# Altium integrated library TI Data Converters Digital to Analog Converter.IntLib: 1533 symbols (part 91 of 99)
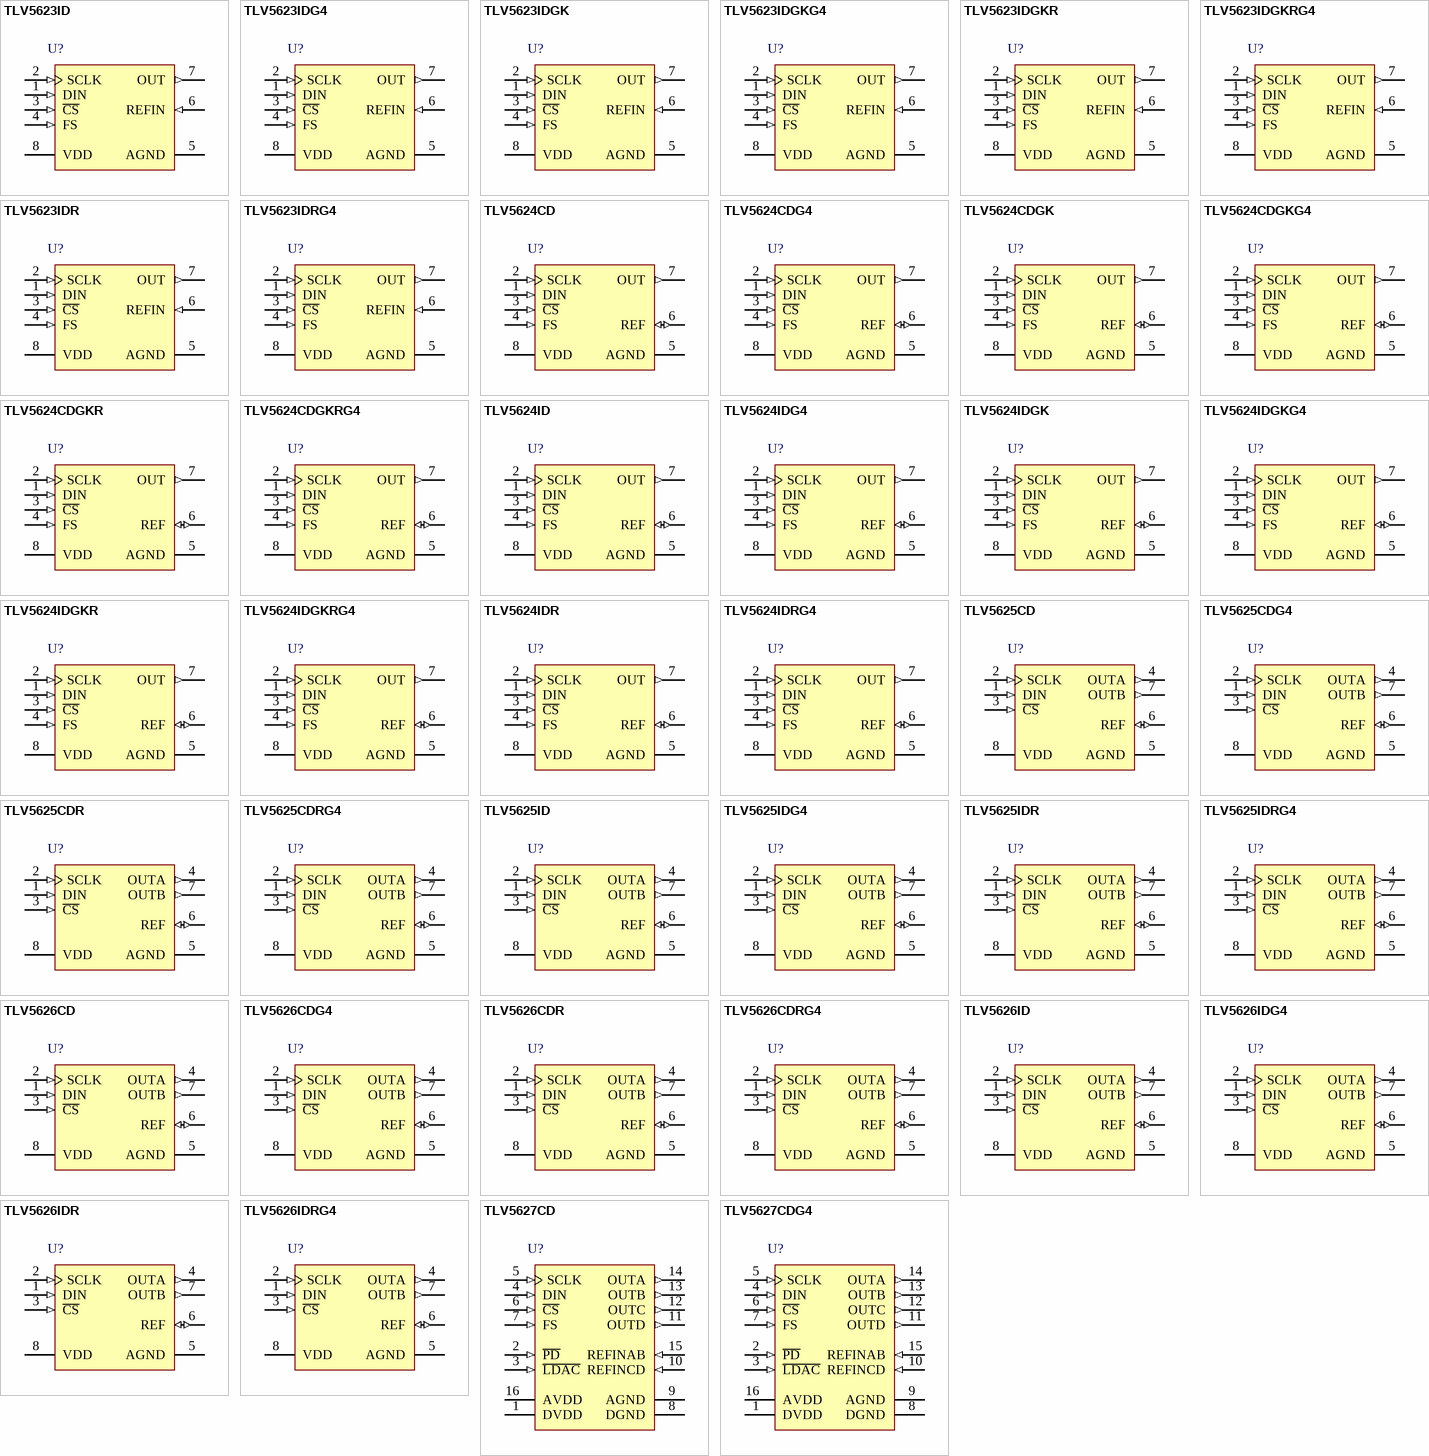
[diagram p163: symbols TLV5623ID to TLV5627CDG4]

## TLV5624CDGK
designator U?
8-Bit, 1 to 3.5 us DAC, Serial Input, Programmable Internal Reference, Settling Time, 0 to 70 degC, 8-pin SOP (DGK8), Green (RoHS & no Sb/Br); Manufacturer: Texas Instruments; PartNumber: TLV5624CDGK; DAC Channels: 1; DNL(Max)(+/-LSB): 0.2; INL(Max)(+/-LSB): 0.5; Interface: Serial SPI; Power Consumption(Typ)(mW): 0.9; Resolution(Bits): 8; SFDR(dB): 62; SNR(dB): 57; SubFamily: Precision DAC (=<10MSPS); DatasheetVersion: SLAS235B; PackageVersion: 4073329/E, 05/2006; PackageReference: DGK8; PackageDescription: 8-Pin Thin Small Outline, Body 3 x 3 mm, Pitch 0.65 mm; Supplier 1: Digi-Key; Supplier Part Number 1: TLV5624CDGK-ND; Supplier 2: Mouser; Supplier Part Number 2: 595-TLV5624CDGK; Eco-Plan: Green (RoHS & no Sb/Br); Settling Time(us): 1; Mounting Technology: Surface Mount; Code_JEDEC: MO-187; ComponentLink1Description: Manufacturer URL; ComponentLink1URL: http://www.ti.com/; ComponentLink2Description: Datasheet; ComponentLink2URL: http://www.ti.com/general/docs/lit/getliterature.tsp?genericPartNumber=TLV5624&fileType=pdf; ComponentLink3Description: Package Specification; ComponentLink3URL: http://www.ti.com/litv/pdf/mpds028d
footprint TI-DGK8_N (SOP, 8-Leads, Body 3x3mm, Pitch 0.65mm, IPC Medium Density)
footprint TI-DGK8_L (SOP, 8-Leads, Body 3x3mm, Pitch 0.65mm, IPC High Density)
footprint TI-DGK8_M (SOP, 8-Leads, Body 3x3mm, Pitch 0.65mm, IPC Low Density)
pins: 1 DIN (in) "Digital serial data input", 2 SCLK (in) "Digital serial clock input", 3 ~{CS} (in) "Chip select. Digital input active low, used to enable/disable inputs", 4 FS (in) "Frame sync input", 5 AGND (power) "Ground", 6 REF (io) "Analog reference voltage input/output", 7 OUT (out) "DAC A analog voltage output", 8 VDD (power) "Positive power supply"

## TLV5624CDGKG4
designator U?
8-Bit, 1 to 3.5 us DAC, Serial Input, Programmable Internal Reference, Settling Time, 0 to 70 degC, 8-pin SOP (DGK8), Green (RoHS & no Sb/Br); Manufacturer: Texas Instruments; PartNumber: TLV5624CDGKG4; DAC Channels: 1; DNL(Max)(+/-LSB): 0.2; INL(Max)(+/-LSB): 0.5; Interface: Serial SPI; Power Consumption(Typ)(mW): 0.9; Resolution(Bits): 8; SFDR(dB): 62; SNR(dB): 57; SubFamily: Precision DAC (=<10MSPS); DatasheetVersion: SLAS235B; PackageVersion: 4073329/E, 05/2006; PackageReference: DGK8; PackageDescription: 8-Pin Thin Small Outline, Body 3 x 3 mm, Pitch 0.65 mm; Supplier 1: Digi-Key; Supplier Part Number 1: TLV5624CDGKG4-ND; Supplier 2: Mouser; Supplier Part Number 2: 595-TLV5624CDGKG4; Eco-Plan: Green (RoHS & no Sb/Br); Settling Time(us): 1; Mounting Technology: Surface Mount; Code_JEDEC: MO-187; ComponentLink1Description: Manufacturer URL; ComponentLink1URL: http://www.ti.com/; ComponentLink2Description: Datasheet; ComponentLink2URL: http://www.ti.com/general/docs/lit/getliterature.tsp?genericPartNumber=TLV5624&fileType=pdf; ComponentLink3Description: Package Specification; ComponentLink3URL: http://www.ti.com/litv/pdf/mpds028d
footprint TI-DGK8_N (SOP, 8-Leads, Body 3x3mm, Pitch 0.65mm, IPC Medium Density)
footprint TI-DGK8_L (SOP, 8-Leads, Body 3x3mm, Pitch 0.65mm, IPC High Density)
footprint TI-DGK8_M (SOP, 8-Leads, Body 3x3mm, Pitch 0.65mm, IPC Low Density)
pins: 1 DIN (in) "Digital serial data input", 2 SCLK (in) "Digital serial clock input", 3 ~{CS} (in) "Chip select. Digital input active low, used to enable/disable inputs", 4 FS (in) "Frame sync input", 5 AGND (power) "Ground", 6 REF (io) "Analog reference voltage input/output", 7 OUT (out) "DAC A analog voltage output", 8 VDD (power) "Positive power supply"

## TLV5624CDGKR
designator U?
8-Bit, 1 to 3.5 us DAC, Serial Input, Programmable Internal Reference, Settling Time, 0 to 70 degC, 8-pin SOP (DGK8), Green (RoHS & no Sb/Br); Manufacturer: Texas Instruments; PartNumber: TLV5624CDGKR; DAC Channels: 1; DNL(Max)(+/-LSB): 0.2; INL(Max)(+/-LSB): 0.5; Interface: Serial SPI; Power Consumption(Typ)(mW): 0.9; Resolution(Bits): 8; SFDR(dB): 62; SNR(dB): 57; SubFamily: Precision DAC (=<10MSPS); DatasheetVersion: SLAS235B; PackageVersion: 4073329/E, 05/2006; PackageReference: DGK8; PackageDescription: 8-Pin Thin Small Outline, Body 3 x 3 mm, Pitch 0.65 mm; Supplier 1: Digi-Key; Supplier Part Number 1: TLV5624CDGKR-ND; Supplier 2: Mouser; Supplier Part Number 2: 595-TLV5624CDGKR; Eco-Plan: Green (RoHS & no Sb/Br); Settling Time(us): 1; Mounting Technology: Surface Mount; Code_JEDEC: MO-187; ComponentLink1Description: Manufacturer URL; ComponentLink1URL: http://www.ti.com/; ComponentLink2Description: Datasheet; ComponentLink2URL: http://www.ti.com/general/docs/lit/getliterature.tsp?genericPartNumber=TLV5624&fileType=pdf; ComponentLink3Description: Package Specification; ComponentLink3URL: http://www.ti.com/litv/pdf/mpds028d
footprint TI-DGK8_N (SOP, 8-Leads, Body 3x3mm, Pitch 0.65mm, IPC Medium Density)
footprint TI-DGK8_L (SOP, 8-Leads, Body 3x3mm, Pitch 0.65mm, IPC High Density)
footprint TI-DGK8_M (SOP, 8-Leads, Body 3x3mm, Pitch 0.65mm, IPC Low Density)
pins: 1 DIN (in) "Digital serial data input", 2 SCLK (in) "Digital serial clock input", 3 ~{CS} (in) "Chip select. Digital input active low, used to enable/disable inputs", 4 FS (in) "Frame sync input", 5 AGND (power) "Ground", 6 REF (io) "Analog reference voltage input/output", 7 OUT (out) "DAC A analog voltage output", 8 VDD (power) "Positive power supply"

## TLV5624CDGKRG4
designator U?
8-Bit, 1 to 3.5 us DAC, Serial Input, Programmable Internal Reference, Settling Time, 0 to 70 degC, 8-pin SOP (DGK8), Green (RoHS & no Sb/Br); Manufacturer: Texas Instruments; PartNumber: TLV5624CDGKRG4; DAC Channels: 1; DNL(Max)(+/-LSB): 0.2; INL(Max)(+/-LSB): 0.5; Interface: Serial SPI; Power Consumption(Typ)(mW): 0.9; Resolution(Bits): 8; SFDR(dB): 62; SNR(dB): 57; SubFamily: Precision DAC (=<10MSPS); DatasheetVersion: SLAS235B; PackageVersion: 4073329/E, 05/2006; PackageReference: DGK8; PackageDescription: 8-Pin Thin Small Outline, Body 3 x 3 mm, Pitch 0.65 mm; Supplier 1: Digi-Key; Supplier Part Number 1: TLV5624CDGKRG4-ND; Supplier 2: Mouser; Supplier Part Number 2: 595-TLV5624CDGKRG4; Eco-Plan: Green (RoHS & no Sb/Br); Settling Time(us): 1; Mounting Technology: Surface Mount; Code_JEDEC: MO-187; ComponentLink1Description: Manufacturer URL; ComponentLink1URL: http://www.ti.com/; ComponentLink2Description: Datasheet; ComponentLink2URL: http://www.ti.com/general/docs/lit/getliterature.tsp?genericPartNumber=TLV5624&fileType=pdf; ComponentLink3Description: Package Specification; ComponentLink3URL: http://www.ti.com/litv/pdf/mpds028d
footprint TI-DGK8_N (SOP, 8-Leads, Body 3x3mm, Pitch 0.65mm, IPC Medium Density)
footprint TI-DGK8_L (SOP, 8-Leads, Body 3x3mm, Pitch 0.65mm, IPC High Density)
footprint TI-DGK8_M (SOP, 8-Leads, Body 3x3mm, Pitch 0.65mm, IPC Low Density)
pins: 1 DIN (in) "Digital serial data input", 2 SCLK (in) "Digital serial clock input", 3 ~{CS} (in) "Chip select. Digital input active low, used to enable/disable inputs", 4 FS (in) "Frame sync input", 5 AGND (power) "Ground", 6 REF (io) "Analog reference voltage input/output", 7 OUT (out) "DAC A analog voltage output", 8 VDD (power) "Positive power supply"

## TLV5624ID
designator U?
8-Bit, 1 to 3.5 us DAC, Serial Input, Programmable Internal Reference, Settling Time, -40 to 85 degC, 8-pin SOIC (D8), Green (RoHS & no Sb/Br); Manufacturer: Texas Instruments; PartNumber: TLV5624ID; DAC Channels: 1; DNL(Max)(+/-LSB): 0.2; INL(Max)(+/-LSB): 0.5; Interface: Serial SPI; Power Consumption(Typ)(mW): 0.9; Resolution(Bits): 8; SFDR(dB): 62; SNR(dB): 57; SubFamily: Precision DAC (=<10MSPS); DatasheetVersion: SLAS235B; PackageVersion: 4040047-3/M, 06/2011; PackageReference: D8; PackageDescription: 8-Pin Plastic Small Outline, Body 4.9 x 3.9 mm, Pitch 1.27 mm; Supplier 1: Digi-Key; Supplier Part Number 1: 296-3054-5-ND; Supplier 2: Farnell; Supplier Part Number 2: 1460319; Supplier 3: Newark; Supplier Part Number 3: 62M0548; Supplier 4: Mouser; Supplier Part Number 4: 595-TLV5624ID; Eco-Plan: Green (RoHS & no Sb/Br); Settling Time(us): 1; Mounting Technology: Surface Mount; Code_JEDEC: MS-012; ComponentLink1Description: Manufacturer URL; ComponentLink1URL: http://www.ti.com/; ComponentLink2Description: Datasheet; ComponentLink2URL: http://www.ti.com/general/docs/lit/getliterature.tsp?genericPartNumber=TLV5624&fileType=pdf; ComponentLink3Description: Package Specification; ComponentLink3URL: http://www.ti.com/litv/pdf/msoi002j
footprint TI-D8_N (SOIC, 8-Leads, Body 4.9x3.9mm, Pitch 1.27mm, IPC Medium Density)
footprint TI-D8_L (SOIC, 8-Leads, Body 4.9x3.9mm, Pitch 1.27mm, IPC High Density)
footprint TI-D8_M (SOIC, 8-Leads, Body 4.9x3.9mm, Pitch 1.27mm, IPC Low Density)
pins: 1 DIN (in) "Digital serial data input", 2 SCLK (in) "Digital serial clock input", 3 ~{CS} (in) "Chip select. Digital input active low, used to enable/disable inputs", 4 FS (in) "Frame sync input", 5 AGND (power) "Ground", 6 REF (io) "Analog reference voltage input/output", 7 OUT (out) "DAC A analog voltage output", 8 VDD (power) "Positive power supply"

## TLV5624IDG4
designator U?
8-Bit, 1 to 3.5 us DAC, Serial Input, Programmable Internal Reference, Settling Time, -40 to 85 degC, 8-pin SOIC (D8), Green (RoHS & no Sb/Br); Manufacturer: Texas Instruments; PartNumber: TLV5624IDG4; DAC Channels: 1; DNL(Max)(+/-LSB): 0.2; INL(Max)(+/-LSB): 0.5; Interface: Serial SPI; Power Consumption(Typ)(mW): 0.9; Resolution(Bits): 8; SFDR(dB): 62; SNR(dB): 57; SubFamily: Precision DAC (=<10MSPS); DatasheetVersion: SLAS235B; PackageVersion: 4040047-3/M, 06/2011; PackageReference: D8; PackageDescription: 8-Pin Plastic Small Outline, Body 4.9 x 3.9 mm, Pitch 1.27 mm; Supplier 1: Digi-Key; Supplier Part Number 1: TLV5624IDG4-ND; Supplier 2: Mouser; Supplier Part Number 2: 595-TLV5624IDG4; Eco-Plan: Green (RoHS & no Sb/Br); Settling Time(us): 1; Mounting Technology: Surface Mount; Code_JEDEC: MS-012; ComponentLink1Description: Manufacturer URL; ComponentLink1URL: http://www.ti.com/; ComponentLink2Description: Datasheet; ComponentLink2URL: http://www.ti.com/general/docs/lit/getliterature.tsp?genericPartNumber=TLV5624&fileType=pdf; ComponentLink3Description: Package Specification; ComponentLink3URL: http://www.ti.com/litv/pdf/msoi002j
footprint TI-D8_N (SOIC, 8-Leads, Body 4.9x3.9mm, Pitch 1.27mm, IPC Medium Density)
footprint TI-D8_L (SOIC, 8-Leads, Body 4.9x3.9mm, Pitch 1.27mm, IPC High Density)
footprint TI-D8_M (SOIC, 8-Leads, Body 4.9x3.9mm, Pitch 1.27mm, IPC Low Density)
pins: 1 DIN (in) "Digital serial data input", 2 SCLK (in) "Digital serial clock input", 3 ~{CS} (in) "Chip select. Digital input active low, used to enable/disable inputs", 4 FS (in) "Frame sync input", 5 AGND (power) "Ground", 6 REF (io) "Analog reference voltage input/output", 7 OUT (out) "DAC A analog voltage output", 8 VDD (power) "Positive power supply"

## TLV5624IDGK
designator U?
8-Bit, 1 to 3.5 us DAC, Serial Input, Programmable Internal Reference, Settling Time, -40 to 85 degC, 8-pin SOP (DGK8), Green (RoHS & no Sb/Br); Manufacturer: Texas Instruments; PartNumber: TLV5624IDGK; DAC Channels: 1; DNL(Max)(+/-LSB): 0.2; INL(Max)(+/-LSB): 0.5; Interface: Serial SPI; Power Consumption(Typ)(mW): 0.9; Resolution(Bits): 8; SFDR(dB): 62; SNR(dB): 57; SubFamily: Precision DAC (=<10MSPS); DatasheetVersion: SLAS235B; PackageVersion: 4073329/E, 05/2006; PackageReference: DGK8; PackageDescription: 8-Pin Thin Small Outline, Body 3 x 3 mm, Pitch 0.65 mm; Supplier 1: Digi-Key; Supplier Part Number 1: 296-3055-5-ND; Supplier 2: Mouser; Supplier Part Number 2: 595-TLV5624IDGK; Eco-Plan: Green (RoHS & no Sb/Br); Settling Time(us): 1; Mounting Technology: Surface Mount; Code_JEDEC: MO-187; ComponentLink1Description: Manufacturer URL; ComponentLink1URL: http://www.ti.com/; ComponentLink2Description: Datasheet; ComponentLink2URL: http://www.ti.com/general/docs/lit/getliterature.tsp?genericPartNumber=TLV5624&fileType=pdf; ComponentLink3Description: Package Specification; ComponentLink3URL: http://www.ti.com/litv/pdf/mpds028d
footprint TI-DGK8_N (SOP, 8-Leads, Body 3x3mm, Pitch 0.65mm, IPC Medium Density)
footprint TI-DGK8_L (SOP, 8-Leads, Body 3x3mm, Pitch 0.65mm, IPC High Density)
footprint TI-DGK8_M (SOP, 8-Leads, Body 3x3mm, Pitch 0.65mm, IPC Low Density)
pins: 1 DIN (in) "Digital serial data input", 2 SCLK (in) "Digital serial clock input", 3 ~{CS} (in) "Chip select. Digital input active low, used to enable/disable inputs", 4 FS (in) "Frame sync input", 5 AGND (power) "Ground", 6 REF (io) "Analog reference voltage input/output", 7 OUT (out) "DAC A analog voltage output", 8 VDD (power) "Positive power supply"

## TLV5624IDGKG4
designator U?
8-Bit, 1 to 3.5 us DAC, Serial Input, Programmable Internal Reference, Settling Time, -40 to 85 degC, 8-pin SOP (DGK8), Green (RoHS & no Sb/Br); Manufacturer: Texas Instruments; PartNumber: TLV5624IDGKG4; DAC Channels: 1; DNL(Max)(+/-LSB): 0.2; INL(Max)(+/-LSB): 0.5; Interface: Serial SPI; Power Consumption(Typ)(mW): 0.9; Resolution(Bits): 8; SFDR(dB): 62; SNR(dB): 57; SubFamily: Precision DAC (=<10MSPS); DatasheetVersion: SLAS235B; PackageVersion: 4073329/E, 05/2006; PackageReference: DGK8; PackageDescription: 8-Pin Thin Small Outline, Body 3 x 3 mm, Pitch 0.65 mm; Supplier 1: Digi-Key; Supplier Part Number 1: TLV5624IDGKG4-ND; Supplier 2: Mouser; Supplier Part Number 2: 595-TLV5624IDGKG4; Eco-Plan: Green (RoHS & no Sb/Br); Settling Time(us): 1; Mounting Technology: Surface Mount; Code_JEDEC: MO-187; ComponentLink1Description: Manufacturer URL; ComponentLink1URL: http://www.ti.com/; ComponentLink2Description: Datasheet; ComponentLink2URL: http://www.ti.com/general/docs/lit/getliterature.tsp?genericPartNumber=TLV5624&fileType=pdf; ComponentLink3Description: Package Specification; ComponentLink3URL: http://www.ti.com/litv/pdf/mpds028d
footprint TI-DGK8_N (SOP, 8-Leads, Body 3x3mm, Pitch 0.65mm, IPC Medium Density)
footprint TI-DGK8_L (SOP, 8-Leads, Body 3x3mm, Pitch 0.65mm, IPC High Density)
footprint TI-DGK8_M (SOP, 8-Leads, Body 3x3mm, Pitch 0.65mm, IPC Low Density)
pins: 1 DIN (in) "Digital serial data input", 2 SCLK (in) "Digital serial clock input", 3 ~{CS} (in) "Chip select. Digital input active low, used to enable/disable inputs", 4 FS (in) "Frame sync input", 5 AGND (power) "Ground", 6 REF (io) "Analog reference voltage input/output", 7 OUT (out) "DAC A analog voltage output", 8 VDD (power) "Positive power supply"

## TLV5624IDGKR
designator U?
8-Bit, 1 to 3.5 us DAC, Serial Input, Programmable Internal Reference, Settling Time, -40 to 85 degC, 8-pin SOP (DGK8), Green (RoHS & no Sb/Br); Manufacturer: Texas Instruments; PartNumber: TLV5624IDGKR; DAC Channels: 1; DNL(Max)(+/-LSB): 0.2; INL(Max)(+/-LSB): 0.5; Interface: Serial SPI; Power Consumption(Typ)(mW): 0.9; Resolution(Bits): 8; SFDR(dB): 62; SNR(dB): 57; SubFamily: Precision DAC (=<10MSPS); DatasheetVersion: SLAS235B; PackageVersion: 4073329/E, 05/2006; PackageReference: DGK8; PackageDescription: 8-Pin Thin Small Outline, Body 3 x 3 mm, Pitch 0.65 mm; Supplier 1: Digi-Key; Supplier Part Number 1: TLV5624IDGKR-ND; Supplier 2: Mouser; Supplier Part Number 2: 595-TLV5624IDGKR; Eco-Plan: Green (RoHS & no Sb/Br); Settling Time(us): 1; Mounting Technology: Surface Mount; Code_JEDEC: MO-187; ComponentLink1Description: Manufacturer URL; ComponentLink1URL: http://www.ti.com/; ComponentLink2Description: Datasheet; ComponentLink2URL: http://www.ti.com/general/docs/lit/getliterature.tsp?genericPartNumber=TLV5624&fileType=pdf; ComponentLink3Description: Package Specification; ComponentLink3URL: http://www.ti.com/litv/pdf/mpds028d
footprint TI-DGK8_N (SOP, 8-Leads, Body 3x3mm, Pitch 0.65mm, IPC Medium Density)
footprint TI-DGK8_L (SOP, 8-Leads, Body 3x3mm, Pitch 0.65mm, IPC High Density)
footprint TI-DGK8_M (SOP, 8-Leads, Body 3x3mm, Pitch 0.65mm, IPC Low Density)
pins: 1 DIN (in) "Digital serial data input", 2 SCLK (in) "Digital serial clock input", 3 ~{CS} (in) "Chip select. Digital input active low, used to enable/disable inputs", 4 FS (in) "Frame sync input", 5 AGND (power) "Ground", 6 REF (io) "Analog reference voltage input/output", 7 OUT (out) "DAC A analog voltage output", 8 VDD (power) "Positive power supply"

## TLV5624IDGKRG4
designator U?
8-Bit, 1 to 3.5 us DAC, Serial Input, Programmable Internal Reference, Settling Time, -40 to 85 degC, 8-pin SOP (DGK8), Green (RoHS & no Sb/Br); Manufacturer: Texas Instruments; PartNumber: TLV5624IDGKRG4; DAC Channels: 1; DNL(Max)(+/-LSB): 0.2; INL(Max)(+/-LSB): 0.5; Interface: Serial SPI; Power Consumption(Typ)(mW): 0.9; Resolution(Bits): 8; SFDR(dB): 62; SNR(dB): 57; SubFamily: Precision DAC (=<10MSPS); DatasheetVersion: SLAS235B; PackageVersion: 4073329/E, 05/2006; PackageReference: DGK8; PackageDescription: 8-Pin Thin Small Outline, Body 3 x 3 mm, Pitch 0.65 mm; Supplier 1: Digi-Key; Supplier Part Number 1: TLV5624IDGKRG4-ND; Supplier 2: Mouser; Supplier Part Number 2: 595-TLV5624IDGKRG4; Eco-Plan: Green (RoHS & no Sb/Br); Settling Time(us): 1; Mounting Technology: Surface Mount; Code_JEDEC: MO-187; ComponentLink1Description: Manufacturer URL; ComponentLink1URL: http://www.ti.com/; ComponentLink2Description: Datasheet; ComponentLink2URL: http://www.ti.com/general/docs/lit/getliterature.tsp?genericPartNumber=TLV5624&fileType=pdf; ComponentLink3Description: Package Specification; ComponentLink3URL: http://www.ti.com/litv/pdf/mpds028d
footprint TI-DGK8_N (SOP, 8-Leads, Body 3x3mm, Pitch 0.65mm, IPC Medium Density)
footprint TI-DGK8_L (SOP, 8-Leads, Body 3x3mm, Pitch 0.65mm, IPC High Density)
footprint TI-DGK8_M (SOP, 8-Leads, Body 3x3mm, Pitch 0.65mm, IPC Low Density)
pins: 1 DIN (in) "Digital serial data input", 2 SCLK (in) "Digital serial clock input", 3 ~{CS} (in) "Chip select. Digital input active low, used to enable/disable inputs", 4 FS (in) "Frame sync input", 5 AGND (power) "Ground", 6 REF (io) "Analog reference voltage input/output", 7 OUT (out) "DAC A analog voltage output", 8 VDD (power) "Positive power supply"

## TLV5624IDR
designator U?
8-Bit, 1 to 3.5 us DAC, Serial Input, Programmable Internal Reference, Settling Time, -40 to 85 degC, 8-pin SOIC (D8), Green (RoHS & no Sb/Br); Manufacturer: Texas Instruments; PartNumber: TLV5624IDR; DAC Channels: 1; DNL(Max)(+/-LSB): 0.2; INL(Max)(+/-LSB): 0.5; Interface: Serial SPI; Power Consumption(Typ)(mW): 0.9; Resolution(Bits): 8; SFDR(dB): 62; SNR(dB): 57; SubFamily: Precision DAC (=<10MSPS); DatasheetVersion: SLAS235B; PackageVersion: 4040047-3/M, 06/2011; PackageReference: D8; PackageDescription: 8-Pin Plastic Small Outline, Body 4.9 x 3.9 mm, Pitch 1.27 mm; Supplier 1: Digi-Key; Supplier Part Number 1: TLV5624IDR-ND; Supplier 2: Mouser; Supplier Part Number 2: 595-TLV5624IDR; Eco-Plan: Green (RoHS & no Sb/Br); Settling Time(us): 1; Mounting Technology: Surface Mount; Code_JEDEC: MS-012; ComponentLink1Description: Manufacturer URL; ComponentLink1URL: http://www.ti.com/; ComponentLink2Description: Datasheet; ComponentLink2URL: http://www.ti.com/general/docs/lit/getliterature.tsp?genericPartNumber=TLV5624&fileType=pdf; ComponentLink3Description: Package Specification; ComponentLink3URL: http://www.ti.com/litv/pdf/msoi002j
footprint TI-D8_N (SOIC, 8-Leads, Body 4.9x3.9mm, Pitch 1.27mm, IPC Medium Density)
footprint TI-D8_L (SOIC, 8-Leads, Body 4.9x3.9mm, Pitch 1.27mm, IPC High Density)
footprint TI-D8_M (SOIC, 8-Leads, Body 4.9x3.9mm, Pitch 1.27mm, IPC Low Density)
pins: 1 DIN (in) "Digital serial data input", 2 SCLK (in) "Digital serial clock input", 3 ~{CS} (in) "Chip select. Digital input active low, used to enable/disable inputs", 4 FS (in) "Frame sync input", 5 AGND (power) "Ground", 6 REF (io) "Analog reference voltage input/output", 7 OUT (out) "DAC A analog voltage output", 8 VDD (power) "Positive power supply"

## TLV5624IDRG4
designator U?
8-Bit, 1 to 3.5 us DAC, Serial Input, Programmable Internal Reference, Settling Time, -40 to 85 degC, 8-pin SOIC (D8), Green (RoHS & no Sb/Br); Manufacturer: Texas Instruments; PartNumber: TLV5624IDRG4; DAC Channels: 1; DNL(Max)(+/-LSB): 0.2; INL(Max)(+/-LSB): 0.5; Interface: Serial SPI; Power Consumption(Typ)(mW): 0.9; Resolution(Bits): 8; SFDR(dB): 62; SNR(dB): 57; SubFamily: Precision DAC (=<10MSPS); DatasheetVersion: SLAS235B; PackageVersion: 4040047-3/M, 06/2011; PackageReference: D8; PackageDescription: 8-Pin Plastic Small Outline, Body 4.9 x 3.9 mm, Pitch 1.27 mm; Supplier 1: Digi-Key; Supplier Part Number 1: TLV5624IDRG4-ND; Supplier 2: Mouser; Supplier Part Number 2: 595-TLV5624IDRG4; Eco-Plan: Green (RoHS & no Sb/Br); Settling Time(us): 1; Mounting Technology: Surface Mount; Code_JEDEC: MS-012; ComponentLink1Description: Manufacturer URL; ComponentLink1URL: http://www.ti.com/; ComponentLink2Description: Datasheet; ComponentLink2URL: http://www.ti.com/general/docs/lit/getliterature.tsp?genericPartNumber=TLV5624&fileType=pdf; ComponentLink3Description: Package Specification; ComponentLink3URL: http://www.ti.com/litv/pdf/msoi002j
footprint TI-D8_N (SOIC, 8-Leads, Body 4.9x3.9mm, Pitch 1.27mm, IPC Medium Density)
footprint TI-D8_L (SOIC, 8-Leads, Body 4.9x3.9mm, Pitch 1.27mm, IPC High Density)
footprint TI-D8_M (SOIC, 8-Leads, Body 4.9x3.9mm, Pitch 1.27mm, IPC Low Density)
pins: 1 DIN (in) "Digital serial data input", 2 SCLK (in) "Digital serial clock input", 3 ~{CS} (in) "Chip select. Digital input active low, used to enable/disable inputs", 4 FS (in) "Frame sync input", 5 AGND (power) "Ground", 6 REF (io) "Analog reference voltage input/output", 7 OUT (out) "DAC A analog voltage output", 8 VDD (power) "Positive power supply"

## TLV5625CD
designator U?
8-Bit, 2.5 or 12 us Dual DAC, Serial Input, Programmable Settling Time, 0 to 70 degC, 8-pin SOIC (D8), Green (RoHS & no Sb/Br); Manufacturer: Texas Instruments; PartNumber: TLV5625CD; DAC Channels: 2; DNL(Max)(+/-LSB): 0.2; INL(Max)(+/-LSB): 0.5; Interface: Serial SPI; Power Consumption(Typ)(mW): 2.4; Resolution(Bits): 8; Settling Time(us): 3; SFDR(dB): 50; SNR(dB): 54; SubFamily: Precision DAC (=<10MSPS); DatasheetVersion: SLAS233D; PackageVersion: 4040047-3/M, 06/2011; PackageReference: D8; PackageDescription: 8-Pin Plastic Small Outline, Body 4.9 x 3.9 mm, Pitch 1.27 mm; Supplier 1: Digi-Key; Supplier Part Number 1: 296-2310-5-ND; Supplier 2: Newark; Supplier Part Number 2: 19C9015; Supplier 3: Mouser; Supplier Part Number 3: 595-TLV5625CD; Eco-Plan: Green (RoHS & no Sb/Br); Mounting Technology: Surface Mount; Code_JEDEC: MS-012; ComponentLink1Description: Manufacturer URL; ComponentLink1URL: http://www.ti.com/; ComponentLink2Description: Datasheet; ComponentLink2URL: http://www.ti.com/general/docs/lit/getliterature.tsp?genericPartNumber=TLV5625&fileType=pdf; ComponentLink3Description: Package Specification; ComponentLink3URL: http://www.ti.com/litv/pdf/msoi002j
footprint TI-D8_N (SOIC, 8-Leads, Body 4.9x3.9mm, Pitch 1.27mm, IPC Medium Density)
footprint TI-D8_L (SOIC, 8-Leads, Body 4.9x3.9mm, Pitch 1.27mm, IPC High Density)
footprint TI-D8_M (SOIC, 8-Leads, Body 4.9x3.9mm, Pitch 1.27mm, IPC Low Density)
pins: 1 DIN (in) "Digital serial data input", 2 SCLK (in) "Digital serial clock input", 3 ~{CS} (in) "Chip select. Digital input active low, used to enable/disable inputs", 4 OUTA (out) "DAC A analog voltage output", 5 AGND (power) "Ground", 6 REF (io) "Analog reference voltage input/output", 7 OUTB (out) "DAC B analog voltage output", 8 VDD (power) "Positive power supply"

## TLV5625CDG4
designator U?
8-Bit, 2.5 or 12 us Dual DAC, Serial Input, Programmable Settling Time, 0 to 70 degC, 8-pin SOIC (D8), Green (RoHS & no Sb/Br); Manufacturer: Texas Instruments; PartNumber: TLV5625CDG4; DAC Channels: 2; DNL(Max)(+/-LSB): 0.2; INL(Max)(+/-LSB): 0.5; Interface: Serial SPI; Power Consumption(Typ)(mW): 2.4; Resolution(Bits): 8; Settling Time(us): 3; SFDR(dB): 50; SNR(dB): 54; SubFamily: Precision DAC (=<10MSPS); DatasheetVersion: SLAS233D; PackageVersion: 4040047-3/M, 06/2011; PackageReference: D8; PackageDescription: 8-Pin Plastic Small Outline, Body 4.9 x 3.9 mm, Pitch 1.27 mm; Supplier 1: Digi-Key; Supplier Part Number 1: TLV5625CDG4-ND; Supplier 2: Farnell; Supplier Part Number 2: 1234865; Supplier 3: Newark; Supplier Part Number 3: 13M3196; Supplier 4: Mouser; Supplier Part Number 4: 595-TLV5625CDG4; Eco-Plan: Green (RoHS & no Sb/Br); Mounting Technology: Surface Mount; Code_JEDEC: MS-012; ComponentLink1Description: Manufacturer URL; ComponentLink1URL: http://www.ti.com/; ComponentLink2Description: Datasheet; ComponentLink2URL: http://www.ti.com/general/docs/lit/getliterature.tsp?genericPartNumber=TLV5625&fileType=pdf; ComponentLink3Description: Package Specification; ComponentLink3URL: http://www.ti.com/litv/pdf/msoi002j
footprint TI-D8_N (SOIC, 8-Leads, Body 4.9x3.9mm, Pitch 1.27mm, IPC Medium Density)
footprint TI-D8_L (SOIC, 8-Leads, Body 4.9x3.9mm, Pitch 1.27mm, IPC High Density)
footprint TI-D8_M (SOIC, 8-Leads, Body 4.9x3.9mm, Pitch 1.27mm, IPC Low Density)
pins: 1 DIN (in) "Digital serial data input", 2 SCLK (in) "Digital serial clock input", 3 ~{CS} (in) "Chip select. Digital input active low, used to enable/disable inputs", 4 OUTA (out) "DAC A analog voltage output", 5 AGND (power) "Ground", 6 REF (io) "Analog reference voltage input/output", 7 OUTB (out) "DAC B analog voltage output", 8 VDD (power) "Positive power supply"

## TLV5625CDR
designator U?
8-Bit, 2.5 or 12 us Dual DAC, Serial Input, Programmable Settling Time, 0 to 70 degC, 8-pin SOIC (D8), Green (RoHS & no Sb/Br); Manufacturer: Texas Instruments; PartNumber: TLV5625CDR; DAC Channels: 2; DNL(Max)(+/-LSB): 0.2; INL(Max)(+/-LSB): 0.5; Interface: Serial SPI; Power Consumption(Typ)(mW): 2.4; Resolution(Bits): 8; Settling Time(us): 3; SFDR(dB): 50; SNR(dB): 54; SubFamily: Precision DAC (=<10MSPS); DatasheetVersion: SLAS233D; PackageVersion: 4040047-3/M, 06/2011; PackageReference: D8; PackageDescription: 8-Pin Plastic Small Outline, Body 4.9 x 3.9 mm, Pitch 1.27 mm; Supplier 1: Digi-Key; Supplier Part Number 1: TLV5625CDR-ND; Supplier 2: Mouser; Supplier Part Number 2: 595-TLV5625CDR; Eco-Plan: Green (RoHS & no Sb/Br); Mounting Technology: Surface Mount; Code_JEDEC: MS-012; ComponentLink1Description: Manufacturer URL; ComponentLink1URL: http://www.ti.com/; ComponentLink2Description: Datasheet; ComponentLink2URL: http://www.ti.com/general/docs/lit/getliterature.tsp?genericPartNumber=TLV5625&fileType=pdf; ComponentLink3Description: Package Specification; ComponentLink3URL: http://www.ti.com/litv/pdf/msoi002j
footprint TI-D8_N (SOIC, 8-Leads, Body 4.9x3.9mm, Pitch 1.27mm, IPC Medium Density)
footprint TI-D8_L (SOIC, 8-Leads, Body 4.9x3.9mm, Pitch 1.27mm, IPC High Density)
footprint TI-D8_M (SOIC, 8-Leads, Body 4.9x3.9mm, Pitch 1.27mm, IPC Low Density)
pins: 1 DIN (in) "Digital serial data input", 2 SCLK (in) "Digital serial clock input", 3 ~{CS} (in) "Chip select. Digital input active low, used to enable/disable inputs", 4 OUTA (out) "DAC A analog voltage output", 5 AGND (power) "Ground", 6 REF (io) "Analog reference voltage input/output", 7 OUTB (out) "DAC B analog voltage output", 8 VDD (power) "Positive power supply"

## TLV5625CDRG4
designator U?
8-Bit, 2.5 or 12 us Dual DAC, Serial Input, Programmable Settling Time, 0 to 70 degC, 8-pin SOIC (D8), Green (RoHS & no Sb/Br); Manufacturer: Texas Instruments; PartNumber: TLV5625CDRG4; DAC Channels: 2; DNL(Max)(+/-LSB): 0.2; INL(Max)(+/-LSB): 0.5; Interface: Serial SPI; Power Consumption(Typ)(mW): 2.4; Resolution(Bits): 8; Settling Time(us): 3; SFDR(dB): 50; SNR(dB): 54; SubFamily: Precision DAC (=<10MSPS); DatasheetVersion: SLAS233D; PackageVersion: 4040047-3/M, 06/2011; PackageReference: D8; PackageDescription: 8-Pin Plastic Small Outline, Body 4.9 x 3.9 mm, Pitch 1.27 mm; Supplier 1: Digi-Key; Supplier Part Number 1: TLV5625CDRG4-ND; Supplier 2: Newark; Supplier Part Number 2: 33K7410; Supplier 3: Mouser; Supplier Part Number 3: 595-TLV5625CDRG4; Eco-Plan: Green (RoHS & no Sb/Br); Mounting Technology: Surface Mount; Code_JEDEC: MS-012; ComponentLink1Description: Manufacturer URL; ComponentLink1URL: http://www.ti.com/; ComponentLink2Description: Datasheet; ComponentLink2URL: http://www.ti.com/general/docs/lit/getliterature.tsp?genericPartNumber=TLV5625&fileType=pdf; ComponentLink3Description: Package Specification; ComponentLink3URL: http://www.ti.com/litv/pdf/msoi002j
footprint TI-D8_N (SOIC, 8-Leads, Body 4.9x3.9mm, Pitch 1.27mm, IPC Medium Density)
footprint TI-D8_L (SOIC, 8-Leads, Body 4.9x3.9mm, Pitch 1.27mm, IPC High Density)
footprint TI-D8_M (SOIC, 8-Leads, Body 4.9x3.9mm, Pitch 1.27mm, IPC Low Density)
pins: 1 DIN (in) "Digital serial data input", 2 SCLK (in) "Digital serial clock input", 3 ~{CS} (in) "Chip select. Digital input active low, used to enable/disable inputs", 4 OUTA (out) "DAC A analog voltage output", 5 AGND (power) "Ground", 6 REF (io) "Analog reference voltage input/output", 7 OUTB (out) "DAC B analog voltage output", 8 VDD (power) "Positive power supply"

## TLV5625ID
designator U?
8-Bit, 2.5 or 12 us Dual DAC, Serial Input, Programmable Settling Time, -40 to 85 degC, 8-pin SOIC (D8), Green (RoHS & no Sb/Br); Manufacturer: Texas Instruments; PartNumber: TLV5625ID; DAC Channels: 2; DNL(Max)(+/-LSB): 0.2; INL(Max)(+/-LSB): 0.5; Interface: Serial SPI; Power Consumption(Typ)(mW): 2.4; Resolution(Bits): 8; Settling Time(us): 3; SFDR(dB): 50; SNR(dB): 54; SubFamily: Precision DAC (=<10MSPS); DatasheetVersion: SLAS233D; PackageVersion: 4040047-3/M, 06/2011; PackageReference: D8; PackageDescription: 8-Pin Plastic Small Outline, Body 4.9 x 3.9 mm, Pitch 1.27 mm; Supplier 1: Digi-Key; Supplier Part Number 1: 296-3056-5-ND; Supplier 2: Mouser; Supplier Part Number 2: 595-TLV5625ID; Eco-Plan: Green (RoHS & no Sb/Br); Mounting Technology: Surface Mount; Code_JEDEC: MS-012; ComponentLink1Description: Manufacturer URL; ComponentLink1URL: http://www.ti.com/; ComponentLink2Description: Datasheet; ComponentLink2URL: http://www.ti.com/general/docs/lit/getliterature.tsp?genericPartNumber=TLV5625&fileType=pdf; ComponentLink3Description: Package Specification; ComponentLink3URL: http://www.ti.com/litv/pdf/msoi002j
footprint TI-D8_N (SOIC, 8-Leads, Body 4.9x3.9mm, Pitch 1.27mm, IPC Medium Density)
footprint TI-D8_L (SOIC, 8-Leads, Body 4.9x3.9mm, Pitch 1.27mm, IPC High Density)
footprint TI-D8_M (SOIC, 8-Leads, Body 4.9x3.9mm, Pitch 1.27mm, IPC Low Density)
pins: 1 DIN (in) "Digital serial data input", 2 SCLK (in) "Digital serial clock input", 3 ~{CS} (in) "Chip select. Digital input active low, used to enable/disable inputs", 4 OUTA (out) "DAC A analog voltage output", 5 AGND (power) "Ground", 6 REF (io) "Analog reference voltage input/output", 7 OUTB (out) "DAC B analog voltage output", 8 VDD (power) "Positive power supply"

## TLV5625IDG4
designator U?
8-Bit, 2.5 or 12 us Dual DAC, Serial Input, Programmable Settling Time, -40 to 85 degC, 8-pin SOIC (D8), Green (RoHS & no Sb/Br); Manufacturer: Texas Instruments; PartNumber: TLV5625IDG4; DAC Channels: 2; DNL(Max)(+/-LSB): 0.2; INL(Max)(+/-LSB): 0.5; Interface: Serial SPI; Power Consumption(Typ)(mW): 2.4; Resolution(Bits): 8; Settling Time(us): 3; SFDR(dB): 50; SNR(dB): 54; SubFamily: Precision DAC (=<10MSPS); DatasheetVersion: SLAS233D; PackageVersion: 4040047-3/M, 06/2011; PackageReference: D8; PackageDescription: 8-Pin Plastic Small Outline, Body 4.9 x 3.9 mm, Pitch 1.27 mm; Supplier 1: Digi-Key; Supplier Part Number 1: TLV5625IDG4-ND; Supplier 2: Newark; Supplier Part Number 2: 58K6810; Supplier 3: Mouser; Supplier Part Number 3: 595-TLV5625IDG4; Eco-Plan: Green (RoHS & no Sb/Br); Mounting Technology: Surface Mount; Code_JEDEC: MS-012; ComponentLink1Description: Manufacturer URL; ComponentLink1URL: http://www.ti.com/; ComponentLink2Description: Datasheet; ComponentLink2URL: http://www.ti.com/general/docs/lit/getliterature.tsp?genericPartNumber=TLV5625&fileType=pdf; ComponentLink3Description: Package Specification; ComponentLink3URL: http://www.ti.com/litv/pdf/msoi002j
footprint TI-D8_N (SOIC, 8-Leads, Body 4.9x3.9mm, Pitch 1.27mm, IPC Medium Density)
footprint TI-D8_L (SOIC, 8-Leads, Body 4.9x3.9mm, Pitch 1.27mm, IPC High Density)
footprint TI-D8_M (SOIC, 8-Leads, Body 4.9x3.9mm, Pitch 1.27mm, IPC Low Density)
pins: 1 DIN (in) "Digital serial data input", 2 SCLK (in) "Digital serial clock input", 3 ~{CS} (in) "Chip select. Digital input active low, used to enable/disable inputs", 4 OUTA (out) "DAC A analog voltage output", 5 AGND (power) "Ground", 6 REF (io) "Analog reference voltage input/output", 7 OUTB (out) "DAC B analog voltage output", 8 VDD (power) "Positive power supply"

## TLV5625IDR
designator U?
8-Bit, 2.5 or 12 us Dual DAC, Serial Input, Programmable Settling Time, -40 to 85 degC, 8-pin SOIC (D8), Green (RoHS & no Sb/Br); Manufacturer: Texas Instruments; PartNumber: TLV5625IDR; DAC Channels: 2; DNL(Max)(+/-LSB): 0.2; INL(Max)(+/-LSB): 0.5; Interface: Serial SPI; Power Consumption(Typ)(mW): 2.4; Resolution(Bits): 8; Settling Time(us): 3; SFDR(dB): 50; SNR(dB): 54; SubFamily: Precision DAC (=<10MSPS); DatasheetVersion: SLAS233D; PackageVersion: 4040047-3/M, 06/2011; PackageReference: D8; PackageDescription: 8-Pin Plastic Small Outline, Body 4.9 x 3.9 mm, Pitch 1.27 mm; Supplier 1: Digi-Key; Supplier Part Number 1: TLV5625IDR-ND; Supplier 2: Mouser; Supplier Part Number 2: 595-TLV5625IDR; Eco-Plan: Green (RoHS & no Sb/Br); Mounting Technology: Surface Mount; Code_JEDEC: MS-012; ComponentLink1Description: Manufacturer URL; ComponentLink1URL: http://www.ti.com/; ComponentLink2Description: Datasheet; ComponentLink2URL: http://www.ti.com/general/docs/lit/getliterature.tsp?genericPartNumber=TLV5625&fileType=pdf; ComponentLink3Description: Package Specification; ComponentLink3URL: http://www.ti.com/litv/pdf/msoi002j
footprint TI-D8_N (SOIC, 8-Leads, Body 4.9x3.9mm, Pitch 1.27mm, IPC Medium Density)
footprint TI-D8_L (SOIC, 8-Leads, Body 4.9x3.9mm, Pitch 1.27mm, IPC High Density)
footprint TI-D8_M (SOIC, 8-Leads, Body 4.9x3.9mm, Pitch 1.27mm, IPC Low Density)
pins: 1 DIN (in) "Digital serial data input", 2 SCLK (in) "Digital serial clock input", 3 ~{CS} (in) "Chip select. Digital input active low, used to enable/disable inputs", 4 OUTA (out) "DAC A analog voltage output", 5 AGND (power) "Ground", 6 REF (io) "Analog reference voltage input/output", 7 OUTB (out) "DAC B analog voltage output", 8 VDD (power) "Positive power supply"

## TLV5625IDRG4
designator U?
8-Bit, 2.5 or 12 us Dual DAC, Serial Input, Programmable Settling Time, -40 to 85 degC, 8-pin SOIC (D8), Green (RoHS & no Sb/Br); Manufacturer: Texas Instruments; PartNumber: TLV5625IDRG4; DAC Channels: 2; DNL(Max)(+/-LSB): 0.2; INL(Max)(+/-LSB): 0.5; Interface: Serial SPI; Power Consumption(Typ)(mW): 2.4; Resolution(Bits): 8; Settling Time(us): 3; SFDR(dB): 50; SNR(dB): 54; SubFamily: Precision DAC (=<10MSPS); DatasheetVersion: SLAS233D; PackageVersion: 4040047-3/M, 06/2011; PackageReference: D8; PackageDescription: 8-Pin Plastic Small Outline, Body 4.9 x 3.9 mm, Pitch 1.27 mm; Supplier 1: Digi-Key; Supplier Part Number 1: TLV5625IDRG4-ND; Supplier 2: Mouser; Supplier Part Number 2: 595-TLV5625IDRG4; Eco-Plan: Green (RoHS & no Sb/Br); Mounting Technology: Surface Mount; Code_JEDEC: MS-012; ComponentLink1Description: Manufacturer URL; ComponentLink1URL: http://www.ti.com/; ComponentLink2Description: Datasheet; ComponentLink2URL: http://www.ti.com/general/docs/lit/getliterature.tsp?genericPartNumber=TLV5625&fileType=pdf; ComponentLink3Description: Package Specification; ComponentLink3URL: http://www.ti.com/litv/pdf/msoi002j
footprint TI-D8_N (SOIC, 8-Leads, Body 4.9x3.9mm, Pitch 1.27mm, IPC Medium Density)
footprint TI-D8_L (SOIC, 8-Leads, Body 4.9x3.9mm, Pitch 1.27mm, IPC High Density)
footprint TI-D8_M (SOIC, 8-Leads, Body 4.9x3.9mm, Pitch 1.27mm, IPC Low Density)
pins: 1 DIN (in) "Digital serial data input", 2 SCLK (in) "Digital serial clock input", 3 ~{CS} (in) "Chip select. Digital input active low, used to enable/disable inputs", 4 OUTA (out) "DAC A analog voltage output", 5 AGND (power) "Ground", 6 REF (io) "Analog reference voltage input/output", 7 OUTB (out) "DAC B analog voltage output", 8 VDD (power) "Positive power supply"

## TLV5626CD
designator U?
8-Bit, 1 us Dual DAC, Serial Input, Programmable Internal Reference, Settling Time, 0 to 70 degC, 8-pin SOIC (D8), Green (RoHS & no Sb/Br); Manufacturer: Texas Instruments; PartNumber: TLV5626CD; DAC Channels: 2; DNL(Max)(+/-LSB): 0.5; INL(Max)(+/-LSB): 1; Interface: Serial SPI; Power Consumption(Typ)(mW): 4.2; Resolution(Bits): 8; Settling Time(us): 0.8; SFDR(dB): 62; SNR(dB): 57; SubFamily: Precision DAC (=<10MSPS); DatasheetVersion: SLAS236A; PackageVersion: 4040047-3/M, 06/2011; PackageReference: D8; PackageDescription: 8-Pin Plastic Small Outline, Body 4.9 x 3.9 mm, Pitch 1.27 mm; Supplier 1: Digi-Key; Supplier Part Number 1: 296-2311-5-ND; Supplier 2: Newark; Supplier Part Number 2: 19C9016; Supplier 3: Mouser; Supplier Part Number 3: 595-TLV5626CD; Eco-Plan: Green (RoHS & no Sb/Br); Mounting Technology: Surface Mount; Code_JEDEC: MS-012; ComponentLink1Description: Manufacturer URL; ComponentLink1URL: http://www.ti.com/; ComponentLink2Description: Datasheet; ComponentLink2URL: http://www.ti.com/general/docs/lit/getliterature.tsp?genericPartNumber=TLV5626&fileType=pdf; ComponentLink3Description: Package Specification; ComponentLink3URL: http://www.ti.com/litv/pdf/msoi002j
footprint TI-D8_N (SOIC, 8-Leads, Body 4.9x3.9mm, Pitch 1.27mm, IPC Medium Density)
footprint TI-D8_L (SOIC, 8-Leads, Body 4.9x3.9mm, Pitch 1.27mm, IPC High Density)
footprint TI-D8_M (SOIC, 8-Leads, Body 4.9x3.9mm, Pitch 1.27mm, IPC Low Density)
pins: 1 DIN (in) "Digital serial data input", 2 SCLK (in) "Digital serial clock input", 3 ~{CS} (in) "Chip select. Digital input active low, used to enable/disable inputs", 4 OUTA (out) "DAC A analog voltage output", 5 AGND (power) "Ground", 6 REF (io) "Analog reference voltage input/output", 7 OUTB (out) "DAC B analog voltage output", 8 VDD (power) "Positive power supply"

## TLV5626CDG4
designator U?
8-Bit, 1 us Dual DAC, Serial Input, Programmable Internal Reference, Settling Time, 0 to 70 degC, 8-pin SOIC (D8), Green (RoHS & no Sb/Br); Manufacturer: Texas Instruments; PartNumber: TLV5626CDG4; DAC Channels: 2; DNL(Max)(+/-LSB): 0.5; INL(Max)(+/-LSB): 1; Interface: Serial SPI; Power Consumption(Typ)(mW): 4.2; Resolution(Bits): 8; Settling Time(us): 0.8; SFDR(dB): 62; SNR(dB): 57; SubFamily: Precision DAC (=<10MSPS); DatasheetVersion: SLAS236A; PackageVersion: 4040047-3/M, 06/2011; PackageReference: D8; PackageDescription: 8-Pin Plastic Small Outline, Body 4.9 x 3.9 mm, Pitch 1.27 mm; Supplier 1: Digi-Key; Supplier Part Number 1: TLV5626CDG4-ND; Supplier 2: Mouser; Supplier Part Number 2: 595-TLV5626CDG4; Eco-Plan: Green (RoHS & no Sb/Br); Mounting Technology: Surface Mount; Code_JEDEC: MS-012; ComponentLink1Description: Manufacturer URL; ComponentLink1URL: http://www.ti.com/; ComponentLink2Description: Datasheet; ComponentLink2URL: http://www.ti.com/general/docs/lit/getliterature.tsp?genericPartNumber=TLV5626&fileType=pdf; ComponentLink3Description: Package Specification; ComponentLink3URL: http://www.ti.com/litv/pdf/msoi002j
footprint TI-D8_N (SOIC, 8-Leads, Body 4.9x3.9mm, Pitch 1.27mm, IPC Medium Density)
footprint TI-D8_L (SOIC, 8-Leads, Body 4.9x3.9mm, Pitch 1.27mm, IPC High Density)
footprint TI-D8_M (SOIC, 8-Leads, Body 4.9x3.9mm, Pitch 1.27mm, IPC Low Density)
pins: 1 DIN (in) "Digital serial data input", 2 SCLK (in) "Digital serial clock input", 3 ~{CS} (in) "Chip select. Digital input active low, used to enable/disable inputs", 4 OUTA (out) "DAC A analog voltage output", 5 AGND (power) "Ground", 6 REF (io) "Analog reference voltage input/output", 7 OUTB (out) "DAC B analog voltage output", 8 VDD (power) "Positive power supply"

## TLV5626CDR
designator U?
8-Bit, 1 us Dual DAC, Serial Input, Programmable Internal Reference, Settling Time, 0 to 70 degC, 8-pin SOIC (D8), Green (RoHS & no Sb/Br); Manufacturer: Texas Instruments; PartNumber: TLV5626CDR; DAC Channels: 2; DNL(Max)(+/-LSB): 0.5; INL(Max)(+/-LSB): 1; Interface: Serial SPI; Power Consumption(Typ)(mW): 4.2; Resolution(Bits): 8; Settling Time(us): 0.8; SFDR(dB): 62; SNR(dB): 57; SubFamily: Precision DAC (=<10MSPS); DatasheetVersion: SLAS236A; PackageVersion: 4040047-3/M, 06/2011; PackageReference: D8; PackageDescription: 8-Pin Plastic Small Outline, Body 4.9 x 3.9 mm, Pitch 1.27 mm; Supplier 1: Digi-Key; Supplier Part Number 1: TLV5626CDR-ND; Supplier 2: Mouser; Supplier Part Number 2: 595-TLV5626CDR; Eco-Plan: Green (RoHS & no Sb/Br); Mounting Technology: Surface Mount; Code_JEDEC: MS-012; ComponentLink1Description: Manufacturer URL; ComponentLink1URL: http://www.ti.com/; ComponentLink2Description: Datasheet; ComponentLink2URL: http://www.ti.com/general/docs/lit/getliterature.tsp?genericPartNumber=TLV5626&fileType=pdf; ComponentLink3Description: Package Specification; ComponentLink3URL: http://www.ti.com/litv/pdf/msoi002j
footprint TI-D8_N (SOIC, 8-Leads, Body 4.9x3.9mm, Pitch 1.27mm, IPC Medium Density)
footprint TI-D8_L (SOIC, 8-Leads, Body 4.9x3.9mm, Pitch 1.27mm, IPC High Density)
footprint TI-D8_M (SOIC, 8-Leads, Body 4.9x3.9mm, Pitch 1.27mm, IPC Low Density)
pins: 1 DIN (in) "Digital serial data input", 2 SCLK (in) "Digital serial clock input", 3 ~{CS} (in) "Chip select. Digital input active low, used to enable/disable inputs", 4 OUTA (out) "DAC A analog voltage output", 5 AGND (power) "Ground", 6 REF (io) "Analog reference voltage input/output", 7 OUTB (out) "DAC B analog voltage output", 8 VDD (power) "Positive power supply"

## TLV5626CDRG4
designator U?
8-Bit, 1 us Dual DAC, Serial Input, Programmable Internal Reference, Settling Time, 0 to 70 degC, 8-pin SOIC (D8), Green (RoHS & no Sb/Br); Manufacturer: Texas Instruments; PartNumber: TLV5626CDRG4; DAC Channels: 2; DNL(Max)(+/-LSB): 0.5; INL(Max)(+/-LSB): 1; Interface: Serial SPI; Power Consumption(Typ)(mW): 4.2; Resolution(Bits): 8; Settling Time(us): 0.8; SFDR(dB): 62; SNR(dB): 57; SubFamily: Precision DAC (=<10MSPS); DatasheetVersion: SLAS236A; PackageVersion: 4040047-3/M, 06/2011; PackageReference: D8; PackageDescription: 8-Pin Plastic Small Outline, Body 4.9 x 3.9 mm, Pitch 1.27 mm; Supplier 1: Digi-Key; Supplier Part Number 1: TLV5626CDRG4-ND; Supplier 2: Mouser; Supplier Part Number 2: 595-TLV5626CDRG4; Eco-Plan: Green (RoHS & no Sb/Br); Mounting Technology: Surface Mount; Code_JEDEC: MS-012; ComponentLink1Description: Manufacturer URL; ComponentLink1URL: http://www.ti.com/; ComponentLink2Description: Datasheet; ComponentLink2URL: http://www.ti.com/general/docs/lit/getliterature.tsp?genericPartNumber=TLV5626&fileType=pdf; ComponentLink3Description: Package Specification; ComponentLink3URL: http://www.ti.com/litv/pdf/msoi002j
footprint TI-D8_N (SOIC, 8-Leads, Body 4.9x3.9mm, Pitch 1.27mm, IPC Medium Density)
footprint TI-D8_L (SOIC, 8-Leads, Body 4.9x3.9mm, Pitch 1.27mm, IPC High Density)
footprint TI-D8_M (SOIC, 8-Leads, Body 4.9x3.9mm, Pitch 1.27mm, IPC Low Density)
pins: 1 DIN (in) "Digital serial data input", 2 SCLK (in) "Digital serial clock input", 3 ~{CS} (in) "Chip select. Digital input active low, used to enable/disable inputs", 4 OUTA (out) "DAC A analog voltage output", 5 AGND (power) "Ground", 6 REF (io) "Analog reference voltage input/output", 7 OUTB (out) "DAC B analog voltage output", 8 VDD (power) "Positive power supply"

## TLV5626ID
designator U?
8-Bit, 1 us Dual DAC, Serial Input, Programmable Internal Reference, Settling Time, -40 to 85 degC, 8-pin SOIC (D8), Green (RoHS & no Sb/Br); Manufacturer: Texas Instruments; PartNumber: TLV5626ID; DAC Channels: 2; DNL(Max)(+/-LSB): 0.5; INL(Max)(+/-LSB): 1; Interface: Serial SPI; Power Consumption(Typ)(mW): 4.2; Resolution(Bits): 8; Settling Time(us): 0.8; SFDR(dB): 62; SNR(dB): 57; SubFamily: Precision DAC (=<10MSPS); DatasheetVersion: SLAS236A; PackageVersion: 4040047-3/M, 06/2011; PackageReference: D8; PackageDescription: 8-Pin Plastic Small Outline, Body 4.9 x 3.9 mm, Pitch 1.27 mm; Supplier 1: Digi-Key; Supplier Part Number 1: 296-3057-5-ND; Supplier 2: Farnell; Supplier Part Number 2: 8455759; Supplier 3: Newark; Supplier Part Number 3: 76C8957; Supplier 4: Mouser; Supplier Part Number 4: 595-TLV5626ID; Eco-Plan: Green (RoHS & no Sb/Br); Mounting Technology: Surface Mount; Code_JEDEC: MS-012; ComponentLink1Description: Manufacturer URL; ComponentLink1URL: http://www.ti.com/; ComponentLink2Description: Datasheet; ComponentLink2URL: http://www.ti.com/general/docs/lit/getliterature.tsp?genericPartNumber=TLV5626&fileType=pdf; ComponentLink3Description: Package Specification; ComponentLink3URL: http://www.ti.com/litv/pdf/msoi002j
footprint TI-D8_N (SOIC, 8-Leads, Body 4.9x3.9mm, Pitch 1.27mm, IPC Medium Density)
footprint TI-D8_L (SOIC, 8-Leads, Body 4.9x3.9mm, Pitch 1.27mm, IPC High Density)
footprint TI-D8_M (SOIC, 8-Leads, Body 4.9x3.9mm, Pitch 1.27mm, IPC Low Density)
pins: 1 DIN (in) "Digital serial data input", 2 SCLK (in) "Digital serial clock input", 3 ~{CS} (in) "Chip select. Digital input active low, used to enable/disable inputs", 4 OUTA (out) "DAC A analog voltage output", 5 AGND (power) "Ground", 6 REF (io) "Analog reference voltage input/output", 7 OUTB (out) "DAC B analog voltage output", 8 VDD (power) "Positive power supply"

## TLV5626IDG4
designator U?
8-Bit, 1 us Dual DAC, Serial Input, Programmable Internal Reference, Settling Time, -40 to 85 degC, 8-pin SOIC (D8), Green (RoHS & no Sb/Br); Manufacturer: Texas Instruments; PartNumber: TLV5626IDG4; DAC Channels: 2; DNL(Max)(+/-LSB): 0.5; INL(Max)(+/-LSB): 1; Interface: Serial SPI; Power Consumption(Typ)(mW): 4.2; Resolution(Bits): 8; Settling Time(us): 0.8; SFDR(dB): 62; SNR(dB): 57; SubFamily: Precision DAC (=<10MSPS); DatasheetVersion: SLAS236A; PackageVersion: 4040047-3/M, 06/2011; PackageReference: D8; PackageDescription: 8-Pin Plastic Small Outline, Body 4.9 x 3.9 mm, Pitch 1.27 mm; Supplier 1: Digi-Key; Supplier Part Number 1: TLV5626IDG4-ND; Supplier 2: Mouser; Supplier Part Number 2: 595-TLV5626IDG4; Eco-Plan: Green (RoHS & no Sb/Br); Mounting Technology: Surface Mount; Code_JEDEC: MS-012; ComponentLink1Description: Manufacturer URL; ComponentLink1URL: http://www.ti.com/; ComponentLink2Description: Datasheet; ComponentLink2URL: http://www.ti.com/general/docs/lit/getliterature.tsp?genericPartNumber=TLV5626&fileType=pdf; ComponentLink3Description: Package Specification; ComponentLink3URL: http://www.ti.com/litv/pdf/msoi002j
footprint TI-D8_N (SOIC, 8-Leads, Body 4.9x3.9mm, Pitch 1.27mm, IPC Medium Density)
footprint TI-D8_L (SOIC, 8-Leads, Body 4.9x3.9mm, Pitch 1.27mm, IPC High Density)
footprint TI-D8_M (SOIC, 8-Leads, Body 4.9x3.9mm, Pitch 1.27mm, IPC Low Density)
pins: 1 DIN (in) "Digital serial data input", 2 SCLK (in) "Digital serial clock input", 3 ~{CS} (in) "Chip select. Digital input active low, used to enable/disable inputs", 4 OUTA (out) "DAC A analog voltage output", 5 AGND (power) "Ground", 6 REF (io) "Analog reference voltage input/output", 7 OUTB (out) "DAC B analog voltage output", 8 VDD (power) "Positive power supply"

## TLV5626IDR
designator U?
8-Bit, 1 us Dual DAC, Serial Input, Programmable Internal Reference, Settling Time, -40 to 85 degC, 8-pin SOIC (D8), Green (RoHS & no Sb/Br); Manufacturer: Texas Instruments; PartNumber: TLV5626IDR; DAC Channels: 2; DNL(Max)(+/-LSB): 0.5; INL(Max)(+/-LSB): 1; Interface: Serial SPI; Power Consumption(Typ)(mW): 4.2; Resolution(Bits): 8; Settling Time(us): 0.8; SFDR(dB): 62; SNR(dB): 57; SubFamily: Precision DAC (=<10MSPS); DatasheetVersion: SLAS236A; PackageVersion: 4040047-3/M, 06/2011; PackageReference: D8; PackageDescription: 8-Pin Plastic Small Outline, Body 4.9 x 3.9 mm, Pitch 1.27 mm; Supplier 1: Digi-Key; Supplier Part Number 1: TLV5626IDR-ND; Supplier 2: Mouser; Supplier Part Number 2: 595-TLV5626IDR; Eco-Plan: Green (RoHS & no Sb/Br); Mounting Technology: Surface Mount; Code_JEDEC: MS-012; ComponentLink1Description: Manufacturer URL; ComponentLink1URL: http://www.ti.com/; ComponentLink2Description: Datasheet; ComponentLink2URL: http://www.ti.com/general/docs/lit/getliterature.tsp?genericPartNumber=TLV5626&fileType=pdf; ComponentLink3Description: Package Specification; ComponentLink3URL: http://www.ti.com/litv/pdf/msoi002j
footprint TI-D8_N (SOIC, 8-Leads, Body 4.9x3.9mm, Pitch 1.27mm, IPC Medium Density)
footprint TI-D8_L (SOIC, 8-Leads, Body 4.9x3.9mm, Pitch 1.27mm, IPC High Density)
footprint TI-D8_M (SOIC, 8-Leads, Body 4.9x3.9mm, Pitch 1.27mm, IPC Low Density)
pins: 1 DIN (in) "Digital serial data input", 2 SCLK (in) "Digital serial clock input", 3 ~{CS} (in) "Chip select. Digital input active low, used to enable/disable inputs", 4 OUTA (out) "DAC A analog voltage output", 5 AGND (power) "Ground", 6 REF (io) "Analog reference voltage input/output", 7 OUTB (out) "DAC B analog voltage output", 8 VDD (power) "Positive power supply"